# EAGLE library part CON-MOLEX_5566-20 (library molex)
Mini FIT connector 20 pol ATX PC-Motherboard Power connector Source: http://www.molex.com
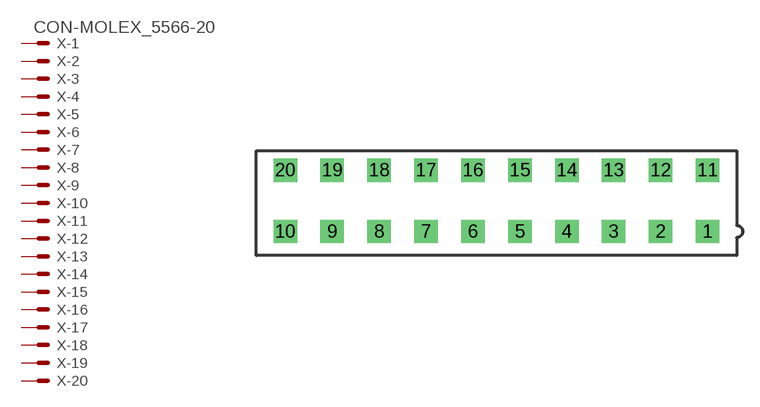
[diagram p2: symbol with the pads of CON-MOLEX_5566-20; footprint CON-MOLEX_5566-20]

Designator prefix X; gates -1=CON-MOLEX_MV -2=CON-MOLEX_M -3=CON-MOLEX_M -4=CON-MOLEX_M -5=CON-MOLEX_M -6=CON-MOLEX_M -7=CON-MOLEX_M -8=CON-MOLEX_M -9=CON-MOLEX_M -10=CON-MOLEX_M -11=CON-MOLEX_M -12=CON-MOLEX_M -13=CON-MOLEX_M -14=CON-MOLEX_M -15=CON-MOLEX_M -16=CON-MOLEX_M -17=CON-MOLEX_M -18=CON-MOLEX_M -19=CON-MOLEX_M -20=CON-MOLEX_M

## CON-MOLEX_5566-20 (OC_FARNELL: unknown; OC_NEWARK: unknown)  [CON-MOLEX_5566-20]
1  -1:S  pas
2  -2:S  pas
3  -3:S  pas
4  -4:S  pas
5  -5:S  pas
6  -6:S  pas
7  -7:S  pas
8  -8:S  pas
9  -9:S  pas
10  -10:S  pas
11  -11:S  pas
12  -12:S  pas
13  -13:S  pas
14  -14:S  pas
15  -15:S  pas
16  -16:S  pas
17  -17:S  pas
18  -18:S  pas
19  -19:S  pas
20  -20:S  pas

## Footprint CON-MOLEX_5566-20 (pad centres in mm)
Mini FIT connector 20 pol ATX PC-Motherboard Power connector Source: http://www.molex.com
drill 1.4 square: 1 18.9,-2.75; 2 14.7,-2.75; 3 10.5,-2.75; 4 6.3,-2.75; 5 2.1,-2.75; 6 -2.1,-2.75; 7 -6.3,-2.75; 8 -10.5,-2.75; 9 -14.7,-2.75; 10 -18.9,-2.75; 11 18.9,2.75; 12 14.7,2.75; 13 10.5,2.75; 14 6.3,2.75; 15 2.1,2.75; 16 -2.1,2.75; 17 -6.3,2.75; 18 -10.5,2.75; 19 -14.7,2.75; 20 -18.9,2.75